# Altium footprint library First32.PcbLib: 19 footprints (part 2 of 2)
Each footprint in its own frame and in the unit in brackets; x right, y up, seen from the top. Pads: shape width x height; smd on the part's side, far side on the other; paste and mask are expansions set on the pad; w line width, h text height; cw(c..) or ccw(c..) is an arc to the next point about the centre after c.
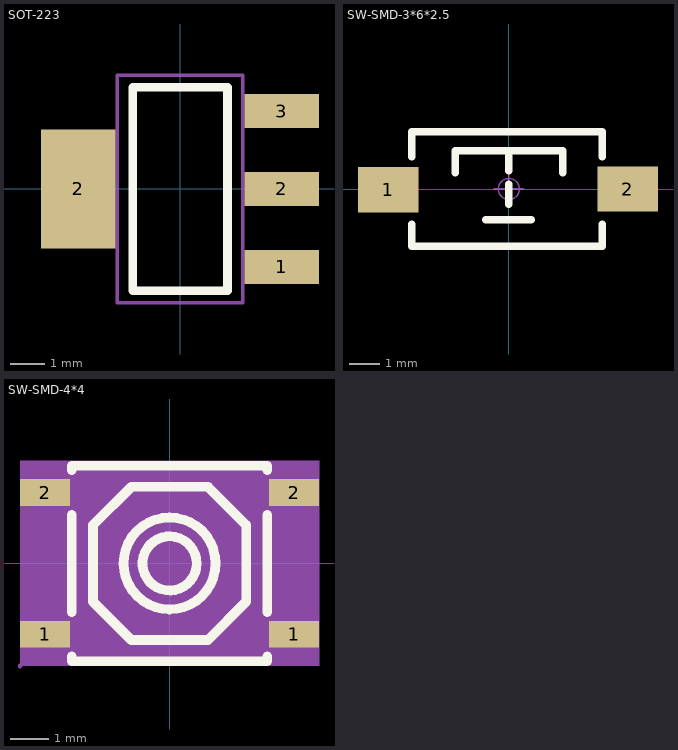
[diagram p1: the footprints below, top view; thin cyan lines are the x and y axes]

## SOT-223 [mm]
height 1
pads (4):
  rect 2.2x1 smd: 1(3,-2.3) 2(3,0) 3(3,2.3)
  rect 2.2x3.5 smd: 2(-3,0)
Top Overlay:
  lines w0.254: -1.4,-3 1.4,-3 1.4,3 -1.4,3 -1.4,-3
Mechanical 13:
  lines w0.1: -1.85,-3.35 -1.85,3.35 1.85,3.35 1.85,-3.35 -1.85,-3.35
3D body "TO-223.STEP": height 1.64, standoff -0.04, extent -3.49,-3.242 3.49,3.243

## SW-SMD-3*6*2.5 [mm] "3*6*2.5mm"
pads (2):
  rect 2x1.5 smd: 1(-3.996,-0.02) 2(3.937,0)
Top Overlay:
  lines w0.254: -3.212,-1.168 -3.212,-1.9 3.088,-1.9 3.088,-1.168 ; -3.212,1.067 -3.212,1.9 3.088,1.9 3.088,1.067 ; -1.778,0.533 -1.778,1.27 1.778,1.27 1.778,0.533 ; -0.762,-1.016 0.737,-1.016 ; 0,-0.508 0,0.152 ; 0,0.61 0,1.27
Mechanical 15:
  circle w0.05: c0,0 r0.35
  lines w0.05: -0.5,0 0.5,0 ; 0,-0.5 0,0.5
3D body "TSW SMD-3x6x2.5.STEP": height 2.59, standoff -0.03, extent -4,-1.928 4,1.572

## SW-SMD-4*4 [mm]
pads (4):
  rect 1.3x0.7 smd: 1(-3.25,-1.85) 1(3.25,-1.85) 2(-3.25,1.85) 2(3.25,1.85)
Top Overlay:
  circle w0.254: c0,0 r0.707
  circle w0.254: c0,0 r1.2
  lines w0.254: -2.55,-2.431 -2.55,-2.55 2.55,-2.55 2.55,-2.431 ; -2.55,-1.269 -2.55,1.269 ; -2.55,2.431 -2.55,2.55 2.55,2.55 2.55,2.431 ; 2.55,-1.269 2.55,1.269 ; -2,-1 -2,1 -1,2 1,2 2,1 2,-1 1,-2 -1,-2 -2,-1
Mechanical 4:
  region: -3.9,2.677 3.9,2.677 3.9,-2.677 -3.9,-2.677
Mechanical 5:
  region: 2.6,-1.5 3.9,-1.5 3.9,-2.2 2.6,-2.2
  region: -3.9,-1.5 -2.6,-1.5 -2.6,-2.2 -3.9,-2.2
  region: 2.6,2.2 3.9,2.2 3.9,1.5 2.6,1.5
  region: -3.9,2.2 -2.6,2.2 -2.6,1.5 -3.9,1.5
Mechanical 6:
  circle w0.06: c-3.9,-2.677 r0.03
3D body "User Library-4x4_SMD_Switch.SLDPRT": height 1.5, standoff 0, extent -3.2,-2.6 3.2,2.6